# Altium schematic symbol library RF Switch.SchLib: 8 symbols
Pins are listed as number, name and electrical type; pins without a type are passive.

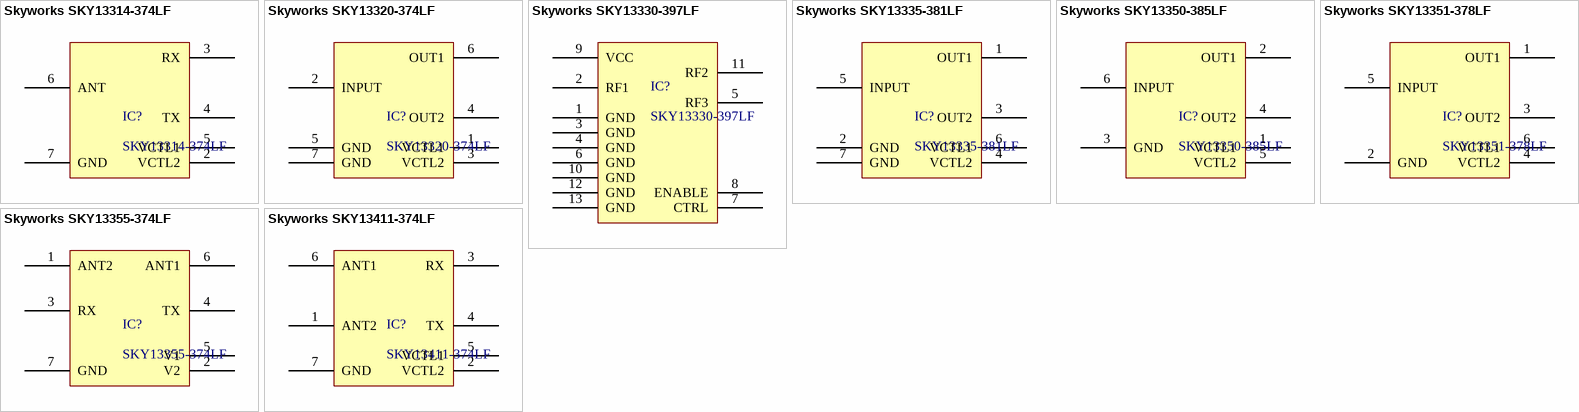
[diagram p0: symbols Skyworks SKY13314-374LF to Skyworks SKY13411-374LF]

## Skyworks SKY13314-374LF
designator IC?, comment SKY13314-374LF
0.1 to 6.0 GHz GaAs SPDT Switch
pins: 2 VCTL2, 3 RX, 4 TX, 5 VCTL1, 6 ANT, 7 GND

## Skyworks SKY13320-374LF
designator IC?, comment SKY13320-374LF
0.1-6.0 GHz GaAs SPDT Switch
pins: 1 VCTL1, 2 INPUT, 3 VCTL2, 4 OUT2, 5 GND, 6 OUT1, 7 GND

## Skyworks SKY13330-397LF
designator IC?, comment SKY13330-397LF
0.1-6.0GHz SPDT Switch
pins: 1 GND, 2 RF1, 3 GND, 4 GND, 5 RF3, 6 GND, 7 CTRL, 8 ENABLE, 9 VCC, 10 GND, 11 RF2, 12 GND, 13 GND

## Skyworks SKY13335-381LF
designator IC?, comment SKY13335-381LF
0.1-6.0 GHz GaAs SPDT Switch
pins: 1 OUT1, 2 GND, 3 OUT2, 4 VCTL2, 5 INPUT, 6 VCTL1, 7 GND

## Skyworks SKY13350-385LF
designator IC?, comment SKY13350-385LF
0.01-6.0 GHz GaAs SPDT Switch
pins: 1 VCTL1, 2 OUT1, 3 GND, 4 OUT2, 5 VCTL2, 6 INPUT

## Skyworks SKY13351-378LF
designator IC?, comment SKY13351-378LF
20 MHz-6.0 GHz GaAs SPDT Switch
pins: 1 OUT1, 2 GND, 3 OUT2, 4 VCTL2, 5 INPUT, 6 VCTL1

## Skyworks SKY13355-374LF
designator IC?, comment SKY13355-374LF
0.1-6.0 GHz DPDT Switch
pins: 1 ANT2, 2 V2, 3 RX, 4 TX, 5 V1, 6 ANT1, 7 GND

## Skyworks SKY13411-374LF
designator IC?, comment SKY13411-374LF
0.1-6.0 GHz DPDT Switch
pins: 1 ANT2, 2 VCTL2, 3 RX, 4 TX, 5 VCTL1, 6 ANT1, 7 GND